# EAGLE library part 693120035011 (library WR-CRD)
https://www.we-online.com/en/components/products/CRD_COMPACT_FLASH_HEADER_SHROUDED_TYPE_50_PINS Kind Properties Quality Class 10000 Mating cycles Gender Socket Type Shrouded General Information Operating Temperature -25 up to +85 °C;​ Compliance RoHS Material Properties Insulator Material LCP Insulator Flammability Rating UL94 V-0 Color White Contact Material Copper Alloy Contact Plating Selective Gold Contact Type Stamped Electrical Properties IR 1：0.5A Working Voltage 100V (AC) Withstanding Voltage 500 V (AC) Contact Resistance 40 mΩ <https://www.we-online.com/components/media/o33062v214%20Family_I-O_COM_CRD_Compact-Flash_693120035011_pf2.jpg> Details see: www.we-online.com/en/components/products/CRD_COMPACT_FLASH_HEADER_SHROUDED_TYPE_50_PINS Created by Ella Wu 2019-11-25 2019(C) Wurth Elektronik
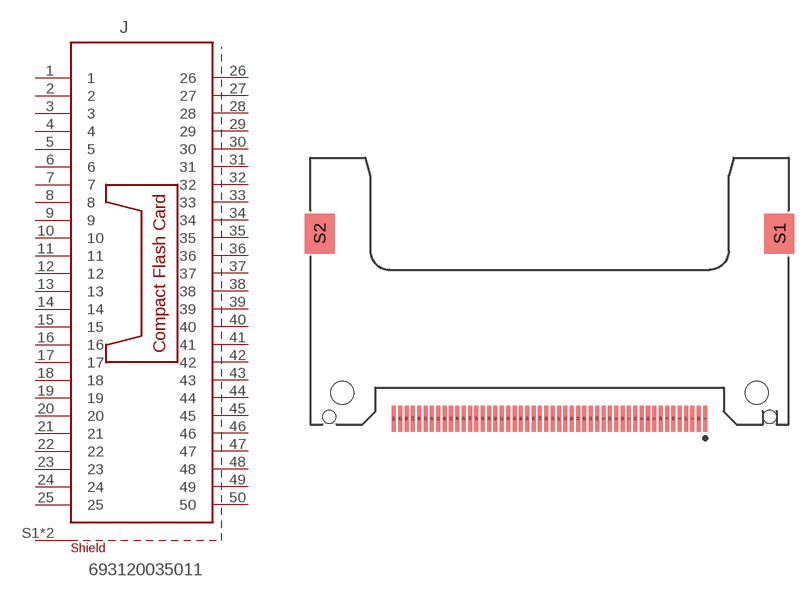
[diagram p10: symbol with the pads of 693120035011; footprint 693120035011]

Designator prefix J

## 693120035011 (DATASHEET-URL: https://www.we-online.com/redexpert/spec/693120035011?ae; GERDER: Socket; IR: 0.5A; MOUNT: SMT; PART-NUMBER: 693120035011; PINS: 50; TYPE: Shrouded; VALUE: 693120035011; WORKING-VOLTAGE: 100V(AC))  [693120035011]
1  1  pwr
2  2
3  3
4  4
5  5
6  6
7  7
8  8
9  9
10  10
11  11
12  12
13  13  pwr
14  14
15  15
16  16
17  17
18  18
19  19
20  20
21  21
22  22
23  23
24  24
25  25
26  26
27  27
28  28
29  29
30  30
31  31
32  32
33  33
34  34
35  35
36  36
37  37
38  38  pwr
39  39
40  40
41  41
42  42
43  43
44  44
45  45
46  46
47  47
48  48
49  49
50  50  pwr
S1  SHIELD
S2  SHIELD

## Footprint 693120035011 (pad centres in mm)
WR-CRD Compact Flash Card Connector Header Shrouded type 50 pins
smd 0.4 x 2.6: 1 15.557,-12.75; 2 14.287,-12.75; 3 13.018,-12.75; 4 11.748,-12.75; 5 10.477,-12.75; 6 9.207,-12.75; 7 7.938,-12.75; 8 6.668,-12.75; 9 5.397,-12.75; 10 4.128,-12.75; 11 2.857,-12.75; 12 1.587,-12.75; 13 0.318,-12.75; 14 -0.953,-12.75; 15 -2.223,-12.75; 16 -3.493,-12.75; 17 -4.763,-12.75; 18 -6.032,-12.75; 19 -7.303,-12.75; 20 -8.572,-12.75; 21 -9.842,-12.75; 22 -11.113,-12.75; 23 -12.383,-12.75; 24 -13.652,-12.75; 25 -14.922,-12.75; 26 14.922,-12.75; 27 13.652,-12.75; 28 12.383,-12.75; 29 11.113,-12.75; 30 9.842,-12.75; 31 8.572,-12.75; 32 7.303,-12.75; 33 6.032,-12.75; 34 4.763,-12.75; 35 3.493,-12.75; 36 2.223,-12.75; 37 0.953,-12.75; 38 -0.318,-12.75; 39 -1.587,-12.75; 40 -2.857,-12.75; 41 -4.128,-12.75; 42 -5.397,-12.75; 43 -6.668,-12.75; 44 -7.938,-12.75; 45 -9.207,-12.75; 46 -10.477,-12.75; 47 -11.748,-12.75; 48 -13.018,-12.75; 49 -14.287,-12.75; 50 -15.557,-12.75
smd 3 x 4: S1 22.98,5.75; S2 -22.98,5.75
hole 2.3 at -20.7,-10.15
hole 2.3 at 20.7,-10.15
hole 1.3 at -22,-12.55
hole 1.3 at 22,-12.55